# Altium schematic symbol library AT93C66B-XHM-B.SCHLIB: 1 symbol
Pins are listed as number, name and electrical type; pins without a type are passive.

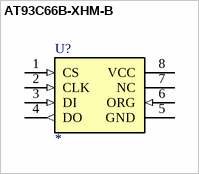
[diagram p0: symbol AT93C66B-XHM-B]

## AT93C66B-XHM-B
designator U?
pins: 1 CS (in), 2 CLK (in), 3 DI (in), 4 DO (out), 5 GND (power), 6 ORG (in), 7 NC, 8 VCC (power)